# EAGLE library part WE-RJ45_7499111446 (library WE-RJ45_LAN)
WE-RJ45 LAN Transformer Characteristics RJ45 Connector with integrated transformer / common mode choke Power over Ethernet up to 50 Watt and speeds up to 10 Gbit/s Available in SMD, THT and THT with USB Compliant with standards: IEEE 802.3u, IEEE 802.3ab, IEEE 802.3af, IEEE 802.3at, IEEE 802.3an and upcoming IEE 802.3bt Applications Suitable for industrial temperatures from –40 °C up to +85 °C Compatible to Industrial Ethernet systems like EtherCAT or Profinet Compliant with most IC’s for Ethernet applications such as Microchip, Texas Instruments, Broadcom, Linear Technology Hubs, Routers, Switches, IP cameras, IoT applications Details see: www.we-online.com/components/products/WE-LAN-RJ45 Updated by Ella Wu 2023-08-16 2023 (C) Würth Elektronik
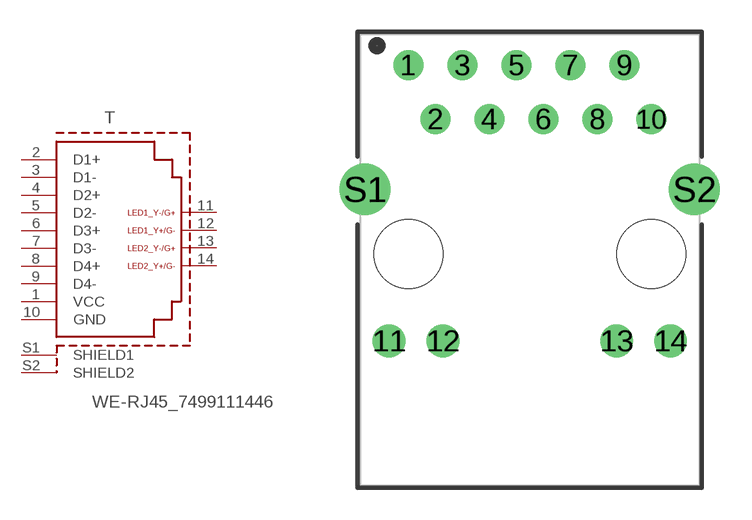
[diagram p52: symbol with the pads of 7499111446; footprint 7499111446]

Designator prefix T

## WE-RJ45_7499111446 (DATA-RATE: 1000BASE-T; DATASHEET: https://www.we-online.com/redexpert/spec/7499111446?ae; IMPROVED-CMRR: No; LED: green/yellow - green/yellow; MOUNT: THT; OPERATING-TEMPERATURE: -40 °C up to +85 °C; PART-NUMBER: 7499111446; PHY-CHIP-MODE: current; POE: non-PoE; PORTS: 1x1; SHIELD-TABS: Yes; TAB: Down; USB: No; VALUE: 7499111446)  [7499111446]
1  VCC  pas
2  D1+  pas
3  D1-  pas
4  D2+  pas
5  D2-  pas
6  D3+  pas
7  D3-  pas
8  D4+  pas
9  D4-  pas
10  GND  pas
11  LED1_Y-/G+  pas
12  LED1_Y+/G-  pas
13  LED2_Y-/G+  pas
14  LED2_Y+/G-  pas
S1  SHIELD1  pas
S2  SHIELD2  pas

## Footprint 7499111446 (pad centres in mm)
WE-RJ45 LAN Transformer 1000BASE-T, Ports:1x1, Tab:Down
drill 0.9: 1 -5.715,8.89; 2 -4.445,6.35; 3 -3.175,8.89; 4 -1.905,6.35; 5 -0.635,8.89; 6 0.635,6.35; 7 1.905,8.89; 8 3.175,6.35; 9 4.445,8.89; 10 5.715,6.35
drill 1.03: 11 -6.625,-4.08; 12 -4.085,-4.08; 13 4.085,-4.08; 14 6.625,-4.08
drill 1.6: S1 -7.745,3.05; S2 7.745,3.05
hole 3.25 at -5.715,0
hole 3.25 at 5.715,0